# EAGLE library part IC_DBM_NJM2594 (library akita)
NJM2954, double balanced mixer
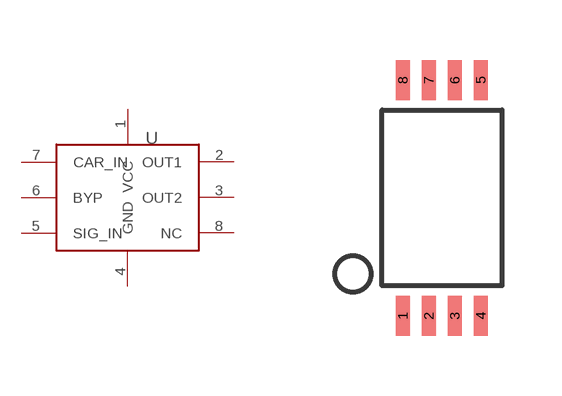
[diagram p171: symbol with the pads of SSOP8; footprint SSOP8]

Designator prefix U

## IC_DBM_NJM2594  [SSOP8]
1  VCC
2  OUT1
3  OUT2
4  GND
5  SIG_IN
6  BYP
7  CAR_IN
8  NC

## Footprint SSOP8 (pad centres in mm)
smd 0.35 x 1: 1 -0.975,-2.95; 2 -0.325,-2.95; 3 0.325,-2.95; 4 0.975,-2.95; 5 0.975,2.95; 6 0.325,2.95; 7 -0.325,2.95; 8 -0.975,2.95